# Altium schematic symbol library Ohmite Current Sense Resistors.SchLib: 1 symbol
Pins are listed as number, name and electrical type; pins without a type are passive.

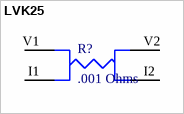
[diagram p0: symbol LVK25]

## LVK25
designator R?, comment .001 Ohms
Four Terminal High Precision Current Sense Resistor
footprint LVK25 (1224)
pins: I1 2, I2 3, V1 0, V2 1